# EAGLE library part LCD20X4 (library JoshParts)
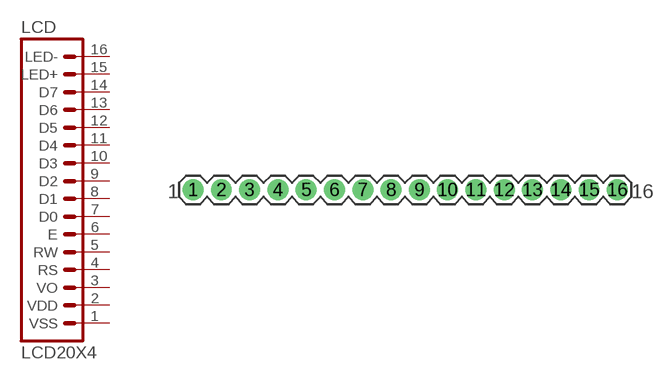
[diagram p3: symbol with the pads of LCD20X4; footprint LCD20X4]

Designator prefix LCD

## LCD20X4  [LCD20X4]
1  VSS  pas
2  VDD  pas
3  VO  pas
4  RS  pas
5  RW  pas
6  E  pas
7  D0  pas
8  D1  pas
9  D2  pas
10  D3  pas
11  D4  pas
12  D5  pas
13  D6  pas
14  D7  pas
15  LED+  pas
16  LED-  pas

## Footprint LCD20X4 (pad centres in mm)
drill 1.016 pad 1.88: 1 0,0; 2 2.54,0; 3 5.08,0; 4 7.62,0; 5 10.16,0; 6 12.7,0; 7 15.24,0; 8 17.78,0; 9 20.32,0; 10 22.86,0; 11 25.4,0; 12 27.94,0; 13 30.48,0; 14 33.02,0; 15 35.56,0; 16 38.1,0